# Altium footprint library daughterboard.PcbLib: 1 footprints
Each footprint in its own frame and in the unit in brackets; x right, y up, seen from the top. Pads: shape width x height; smd on the part's side, far side on the other; paste and mask are expansions set on the pad; w line width, h text height; cw(c..) or ccw(c..) is an arc to the next point about the centre after c.
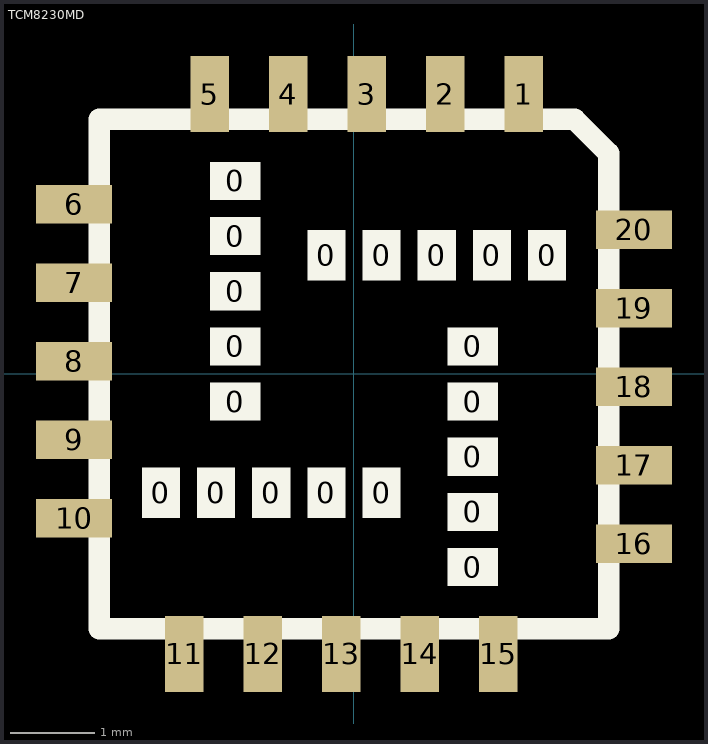
[diagram p0: the footprint, top view; thin cyan lines are the x and y axes]

## TCM8230MD [mm] "VGA CAMERA MODULE 640x480"
pads (40):
  rect 0.45x0.6 on Top Overlay: 0(-2.275,-1.4) 0(-1.625,-1.4) 0(-0.975,-1.4) 0(-0.325,-1.4) 0(-0.325,1.4) 0(0.325,-1.4) 0(0.325,1.4) 0(0.975,1.4) 0(1.625,1.4) 0(2.275,1.4)
  rect 0.6x0.45 on Top Overlay: 0(-1.4,-0.325) 0(-1.4,0.325) 0(-1.4,0.975) 0(-1.4,1.625) 0(-1.4,2.275) 0(1.4,-2.275) 0(1.4,-1.625) 0(1.4,-0.975) 0(1.4,-0.325) 0(1.4,0.325)
  rect 0.45x0.9 smd: 1(2,3.3) 2(1.075,3.3) 3(0.15,3.3) 4(-0.775,3.3) 5(-1.7,3.3) 11(-2,-3.3) 12(-1.075,-3.3) 13(-0.15,-3.3) 14(0.775,-3.3) 15(1.7,-3.3)
  rect 0.9x0.45 smd: 6(-3.3,2) 7(-3.3,1.075) 8(-3.3,0.15) 9(-3.3,-0.775) 10(-3.3,-1.7) 16(3.3,-2) 17(3.3,-1.075) 18(3.3,-0.15) 19(3.3,0.775) 20(3.3,1.7)
Top Overlay:
  lines w0.254: -3,-3 3,-3 3,2.6 2.6,3 -3,3 -3,-3